# Altium footprint library PCB - LEADED - SOT - TI SOT-23-8 DCN.PcbLib: 1 footprints
Each footprint in its own frame and in the unit in brackets; x right, y up, seen from the top. Pads: shape width x height; smd on the part's side, far side on the other; paste and mask are expansions set on the pad; w line width, h text height; cw(c..) or ccw(c..) is an arc to the next point about the centre after c.
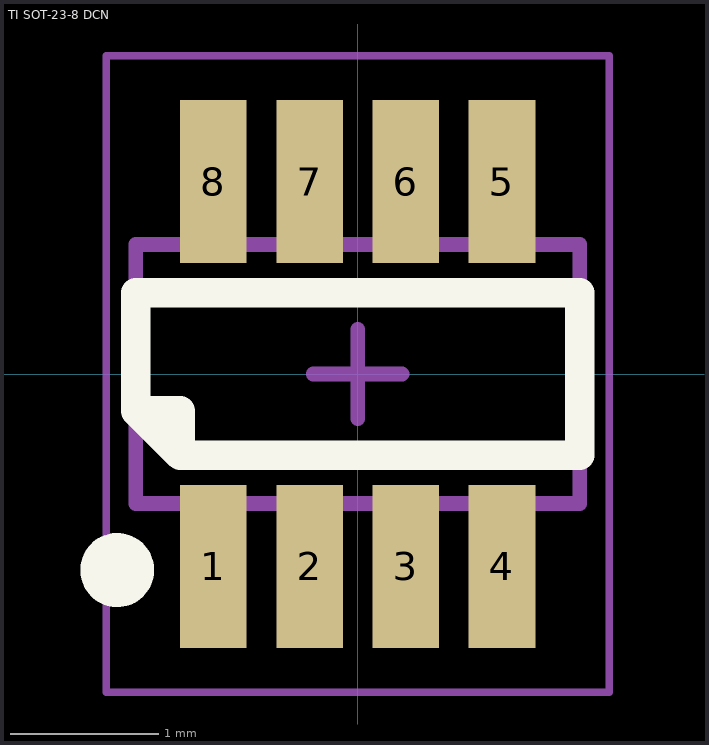
[diagram p0: the footprint, top view; thin cyan lines are the x and y axes]

## TI SOT-23-8 DCN [mm] "SOT23, 8-Leads, Body 3x1.75mm, Pitch 0.65mm, TI OPA2347EA/3K"
height 1.45
pads (8):
  rect 0.45x1.1 smd mask+0.1: 1(-0.975,-1.3) 2(-0.325,-1.3) 3(0.325,-1.3) 4(0.975,-1.3) 5(0.975,1.3) 6(0.325,1.3) 7(-0.325,1.3) 8(-0.975,1.3)
Top Overlay:
  circle w0.25: c-1.625,-1.325 r0.125
  lines w0.2: -1.5,-0.25 -1.2,-0.55 ; -1.5,-0.25 -1.5,0.55 1.5,0.55 1.5,-0.55 -1.2,-0.55 ; -1.5,-0.25 -1.2,-0.25 -1.2,-0.55
Mechanical 13:
  lines w0.1: -1.5,-0.875 1.5,-0.875 1.5,0.875 -1.5,0.875 -1.5,-0.875
Mechanical 15:
  lines w0.05: -1.7,-2.15 1.7,-2.15 1.7,2.15 -1.7,2.15 -1.7,-2.15
  lines w0.1: -0.3,0 0.3,0 ; 0,-0.3 0,0.3
3D body "TI - SOT-23-8 - DCN.step": height 1.44, standoff 0, extent -1.443,-1.399 1.457,1.399